# EAGLE library part 2MM-3*2 (library connect)
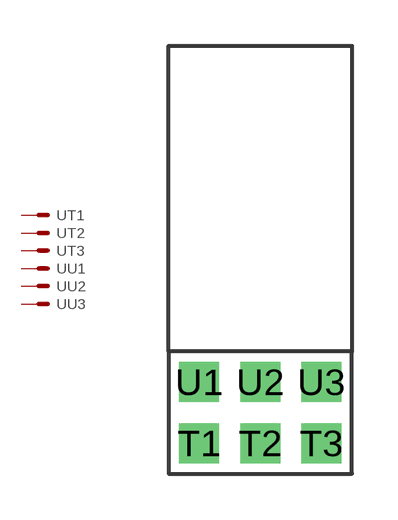
[diagram p6: symbol with the pads of 2MM-3*2; footprint 2MM-3*2]

Designator prefix -; gates T1=M T2=M T3=M U1=M U2=M U3=M

## 2MM-32  [2MM-3*2]
T1  T1:S  pas
T2  T2:S  pas
T3  T3:S  pas
U1  U1:S  pas
U2  U2:S  pas
U3  U3:S  pas

## Footprint 2MM-3*2 (pad centres in mm)
drill 0.8 square: T1 -2,-1; T2 0,-1; T3 2,-1; U1 -2,1; U2 0,1; U3 2,1